# Altium schematic symbol library REF3033AIDBZR.SchLib: 1 symbol
Pins are listed as number, name and electrical type; pins without a type are passive.

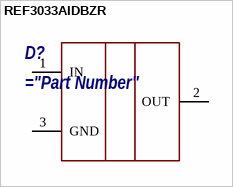
[diagram p0: symbol REF3033AIDBZR]

## REF3033AIDBZR
designator D?
pins: 1 IN, 2 OUT, 3 GND